# Altium schematic symbol library simcom.SchLib: 9 symbols
Pins are listed as number, name and electrical type; pins without a type are passive.

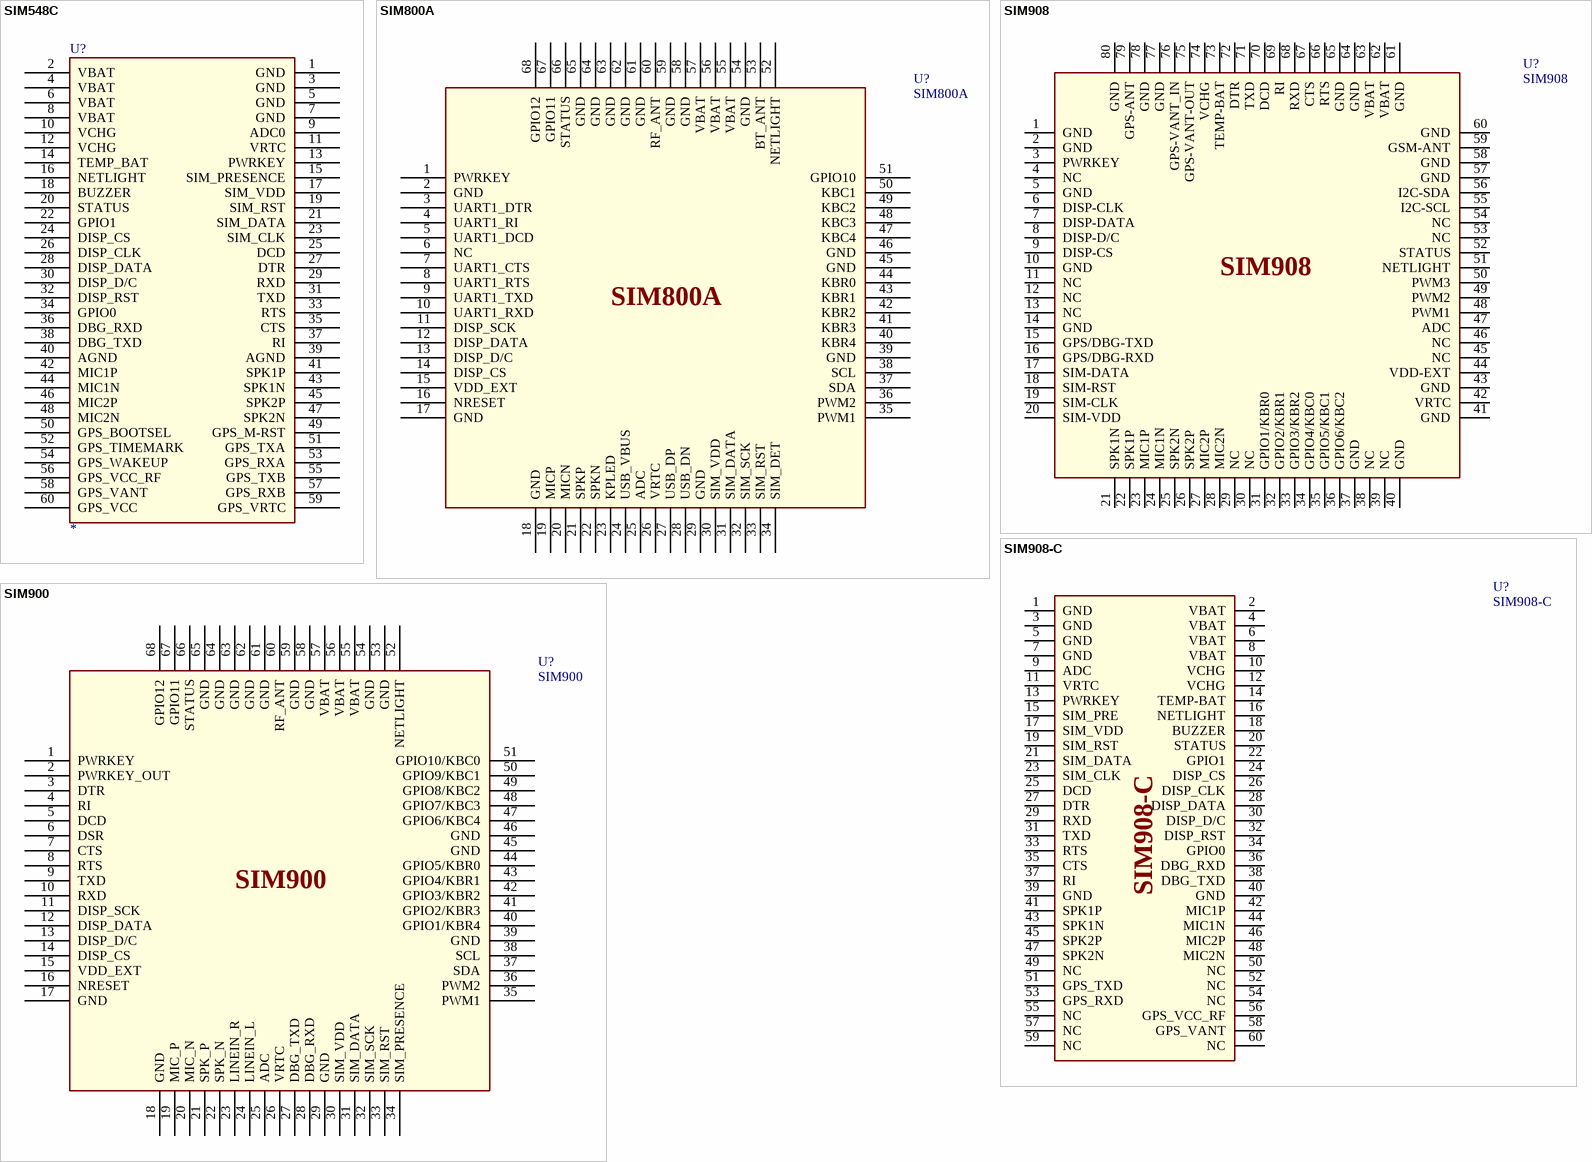
[diagram p0: symbols SIM548C to SIM908-C]

## SIM548C
designator U?
pins: 1 GND, 2 VBAT, 3 GND, 4 VBAT, 5 GND, 6 VBAT, 7 GND, 8 VBAT, 9 ADC0, 10 VCHG, 11 VRTC, 12 VCHG, 13 PWRKEY, 14 TEMP_BAT, 15 SIM_PRESENCE, 16 NETLIGHT, 17 SIM_VDD, 18 BUZZER, 19 SIM_RST, 20 STATUS, 21 SIM_DATA, 22 GPIO1, 23 SIM_CLK, 24 DISP_CS, 25 DCD, 26 DISP_CLK, 27 DTR, 28 DISP_DATA, 29 RXD, 30 DISP_D/C, 31 TXD, 32 DISP_RST, 33 RTS, 34 GPIO0, 35 CTS, 36 DBG_RXD, 37 RI, 38 DBG_TXD, 39 AGND, 40 AGND, 41 SPK1P, 42 MIC1P, 43 SPK1N, 44 MIC1N, 45 SPK2P, 46 MIC2P, 47 SPK2N, 48 MIC2N, 49 GPS_M-RST, 50 GPS_BOOTSEL, 51 GPS_TXA, 52 GPS_TIMEMARK, 53 GPS_RXA, 54 GPS_WAKEUP, 55 GPS_TXB, 56 GPS_VCC_RF, 57 GPS_RXB, 58 GPS_VANT, 59 GPS_VRTC, 60 GPS_VCC

## SIM800A
designator U?
Dual-band GSM/GPRS module EGSM 900, DCS 1800; BRAND: SIMCOM; PART NO: SIM800A; TYPE: SMD
footprint SIM800
pins: 1 PWRKEY "PWRKEY should be pulled low more than 1 second then released to power on/off the module.", 2 GND "Ground", 3 UART1_DTR "Data terminal ready", 4 UART1_RI "Ring indicator", 5 UART1_DCD "Data carrier detect", 6 NC "No connection", 7 UART1_CTS "Clear to send", 8 UART1_RTS "Request to send", 9 UART1_TXD "Transmit data", 10 UART1_RXD "Receive data", 11 DISP_SCK "Display interface", 12 DISP_DATA "Display interface", 13 DISP_D/C "Display interface", 14 DISP_CS "Display interface", 15 VDD_EXT "2.8V output power supply", 16 NRESET "Reset input, active low", 17 GND (power) "Ground", 18 GND (power) "Ground", 19 MICP "Differential audio input", 20 MICN "Differential audio input", 21 SPKP "Differential audio output", 22 SPKN "Differential audio output", 23 KPLED "Sink current for keypad LED", 24 USB_VBUS "For debugging & upgrading firmware", 25 ADC "Input voltage range: 0V ~ 2.8V", 26 VRTC "Power supply for RTC", 27 USB_DP "For debugging & upgrading firmware", 28 USB_DN "For debugging & upgrading firmware", 29 GND (power) "Ground", 30 SIM_VDD "Voltage supply for SIM card. Support 1.8V or 3V SIM card", 31 SIM_DATA "SIM data input/output", 32 SIM_SCK "SIM card clock", 33 SIM_RST "SIM card reset", 34 SIM_DET "SIM card detection", 35 PWM1 "Pulse-Width Modulation", 36 PWM2 "Pulse-Width Modulation", 37 SDA "I2C bus data", 38 SCL "I2C bus clock", 39 GND (power) "Ground", 40 KBR4 "keypad row 4", 41 KBR3 "keypad row 3", 42 KBR2 "keypad row 2", 43 KBR1 "keypad row 1", 44 KBR0 "keypad row 0", 45 GND (power) "Ground", 46 GND (power) "Ground", 47 KBC4 "keypad column 4", 48 KBC3 "keypad column 3", 49 KBC2 "keypad column 2", 50 KBC1 "keypad column 1", 51 GPIO10, 52 NETLIGHT "Network status indication", 53 BT_ANT (power) "Bluetooth antenna", 54 GND (power) "Ground", 55 VBAT (power) "Power supply", 56 VBAT (power) "Power supply", 57 VBAT (power) "Power supply", 58 GND (power) "Ground", 59 GND (power) "Ground", 60 RF_ANT "GSM antenna", 61 GND (power) "Ground", 62 GND (power) "Ground", 63 GND (power) "Ground", 64 GND (power) "Ground", 65 GND (power) "Ground", 66 STATUS "Power on status indication", 67 GPIO11, 68 GPIO12

## SIM900
designator U?
Module GSM/GPRS 850/900/1800/1900MHz
footprint SIM900
pins: 1 PWRKEY, 2 PWRKEY_OUT, 3 DTR, 4 RI, 5 DCD, 6 DSR, 7 CTS, 8 RTS, 9 TXD, 10 RXD, 11 DISP_SCK, 12 DISP_DATA, 13 DISP_D/C, 14 DISP_CS, 15 VDD_EXT, 16 NRESET, 17 GND (power), 18 GND (power), 19 MIC_P, 20 MIC_N, 21 SPK_P, 22 SPK_N, 23 LINEIN_R, 24 LINEIN_L, 25 ADC, 26 VRTC, 27 DBG_TXD, 28 DBG_RXD, 29 GND (power), 30 SIM_VDD, 31 SIM_DATA, 32 SIM_SCK, 33 SIM_RST, 34 SIM_PRESENCE, 35 PWM1, 36 PWM2, 37 SDA, 38 SCL, 39 GND (power), 40 GPIO1/KBR4, 41 GPIO2/KBR3, 42 GPIO3/KBR2, 43 GPIO4/KBR1, 44 GPIO5/KBR0, 45 GND (power), 46 GND (power), 47 GPIO6/KBC4, 48 GPIO7/KBC3, 49 GPIO8/KBC2, 50 GPIO9/KBC1, 51 GPIO10/KBC0, 52 NETLIGHT, 53 GND (power), 54 GND (power), 55 VBAT (power), 56 VBAT (power), 57 VBAT (power), 58 GND (power), 59 GND (power), 60 RF_ANT, 61 GND (power), 62 GND (power), 63 GND (power), 64 GND (power), 65 GND (power), 66 STATUS, 67 GPIO11, 68 GPIO12

## SIM908
designator U?
Module GSM/GPRS 850/900/1800/1900MHz & GPS
footprint SIM908
pins: 1 GND, 2 GND, 3 PWRKEY, 4 NC, 5 GND, 6 DISP-CLK, 7 DISP-DATA, 8 DISP-D/C, 9 DISP-CS, 10 GND, 11 NC, 12 NC, 13 NC, 14 GND, 15 GPS/DBG-TXD, 16 GPS/DBG-RXD, 17 SIM-DATA, 18 SIM-RST (power), 19 SIM-CLK (power), 20 SIM-VDD, 21 SPK1N, 22 SPK1P, 23 MIC1P, 24 MIC1N, 25 SPK2N, 26 SPK2P, 27 MIC2P, 28 MIC2N, 29 NC (power), 30 NC, 31 GPIO1/KBR0, 32 GPIO2/KBR1, 33 GPIO3/KBR2, 34 GPIO4/KBC0, 35 GPIO5/KBC1, 36 GPIO6/KBC2, 37 GND, 38 NC, 39 NC (power), 40 GND, 41 GND, 42 VRTC, 43 GND, 44 VDD-EXT, 45 NC (power), 46 NC (power), 47 ADC, 48 PWM1, 49 PWM2, 50 PWM3, 51 NETLIGHT, 52 STATUS, 53 NC (power), 54 NC (power), 55 I2C-SCL (power), 56 I2C-SDA (power), 57 GND (power), 58 GND (power), 59 GSM-ANT (power), 60 GND, 61 GND (power), 62 VBAT (power), 63 VBAT (power), 64 GND (power), 65 GND (power), 66 RTS, 67 CTS, 68 RXD, 69 RI (power), 70 DCD (power), 71 TXD (power), 72 DTR (power), 73 TEMP-BAT (power), 74 VCHG, 75 GPS-VANT-OUT, 76 GPS-VANT_IN, 77 GND, 78 GND, 79 GPS-ANT, 80 GND

## SIM908-C
designator U?
Module GSM/GPRS 850/900/1800/1900MHz & GPS
footprint SIM908-C
pins: 1 GND, 2 VBAT (power), 3 GND, 4 VBAT (power), 5 GND, 6 VBAT (power), 7 GND, 8 VBAT (power), 9 ADC, 10 VCHG, 11 VRTC, 12 VCHG, 13 PWRKEY, 14 TEMP-BAT (power), 15 SIM_PRE, 16 NETLIGHT, 17 SIM_VDD, 18 BUZZER, 19 SIM_RST (power), 20 STATUS, 21 SIM_DATA, 22 GPIO1, 23 SIM_CLK (power), 24 DISP_CS, 25 DCD (power), 26 DISP_CLK, 27 DTR (power), 28 DISP_DATA, 29 RXD, 30 DISP_D/C, 31 TXD (power), 32 DISP_RST, 33 RTS, 34 GPIO0, 35 CTS, 36 DBG_RXD, 37 RI (power), 38 DBG_TXD, 39 GND (power), 40 GND, 41 SPK1P, 42 MIC1P, 43 SPK1N, 44 MIC1N, 45 SPK2P, 46 MIC2P, 47 SPK2N, 48 MIC2N, 49 NC (power), 50 NC, 51 GPS_TXD, 52 NC, 53 GPS_RXD, 54 NC, 55 NC, 56 GPS_VCC_RF, 57 NC, 58 GPS_VANT, 59 NC, 60 NC

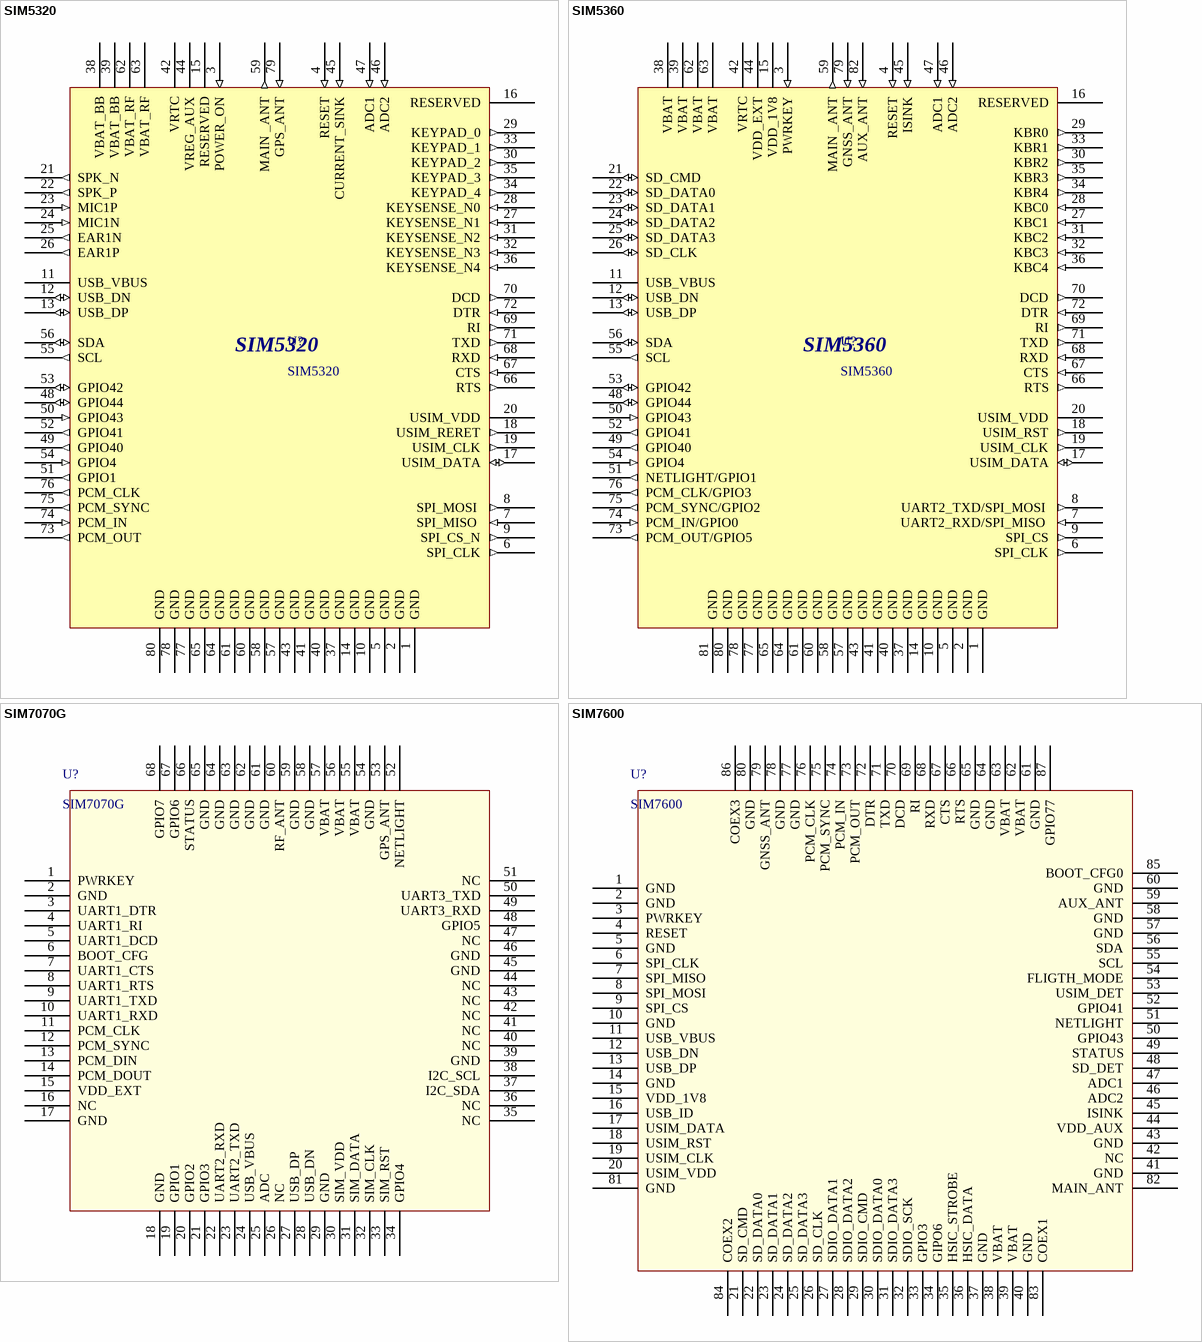
[diagram p1: symbols SIM5320 to SIM7600]

## SIM5320
designator U?
Supplier: *
footprint SIM5320
pins: 1 GND (power), 2 GND (power), 3 POWER_ON (in), 4 RESET (in), 5 GND (power), 6 SPI_CLK (out), 7 SPI_MISO  (in), 8 SPI_MOSI  (out), 9 SPI_CS_N (out), 10 GND (power), 11 USB_VBUS (power), 12 USB_DN (io), 13 USB_DP (io), 14 GND (power), 15 RESERVED, 16 RESERVED, 17 USIM_DATA (io), 18 USIM_RERET (out), 19 USIM_CLK (out), 20 USIM_VDD (power), 21 SPK_N (out), 22 SPK_P (out), 23 MIC1P (in), 24 MIC1N (in), 25 EAR1N (out), 26 EAR1P (out), 27 KEYSENSE_N1 (in), 28 KEYSENSE_N0 (in), 29 KEYPAD_0 (out), 30 KEYPAD_2 (out), 31 KEYSENSE_N2 (in), 32 KEYSENSE_N3 (in), 33 KEYPAD_1 (out), 34 KEYPAD_4 (out), 35 KEYPAD_3 (out), 36 KEYSENSE_N4 (in), 37 GND (power), 38 VBAT_BB (power), 39 VBAT_BB (power), 40 GND (power), 41 GND (power), 42 VRTC (power), 43 GND (power), 44 VREG_AUX (power), 45 CURRENT_SINK (in), 46 ADC2 (in), 47 ADC1 (in), 48 GPIO44 (io), 49 GPIO40 (out), 50 GPIO43 (in), 51 GPIO1 (out), 52 GPIO41 (out), 53 GPIO42 (io), 54 GPIO4 (in), 55 SCL (out), 56 SDA (io), 57 GND (power), 58 GND (power), 59 MAIN _ANT (out), 60 GND (power), 61 GND (power), 62 VBAT_RF (power), 63 VBAT_RF (power), 64 GND (power), 65 GND (power), 66 RTS (out), 67 CTS (in), 68 RXD (in), 69 RI (out), 70 DCD (out), 71 TXD (out), 72 DTR (in), 73 PCM_OUT (out), 74 PCM_IN (in), 75 PCM_SYNC (out), 76 PCM_CLK (out), 77 GND (power), 78 GND (power), 79 GPS_ANT (in), 80 GND (power)

## SIM5360
designator U?
Supplier: *
footprint SIM5360
pins: 1 GND (power), 2 GND (power), 3 PWRKEY (in), 4 RESET (in), 5 GND (power), 6 SPI_CLK (out), 7 UART2_RXD/SPI_MISO  (in), 8 UART2_TXD/SPI_MOSI  (out), 9 SPI_CS (out), 10 GND (power), 11 USB_VBUS (power), 12 USB_DN (io), 13 USB_DP (io), 14 GND (power), 15 VDD_1V8 (power), 16 RESERVED, 17 USIM_DATA (io), 18 USIM_RST (out), 19 USIM_CLK (out), 20 USIM_VDD (power), 21 SD_CMD (io), 22 SD_DATA0 (io), 23 SD_DATA1 (io), 24 SD_DATA2 (io), 25 SD_DATA3 (io), 26 SD_CLK (io), 27 KBC1 (in), 28 KBC0 (in), 29 KBR0 (out), 30 KBR2 (out), 31 KBC2 (in), 32 KBC3 (in), 33 KBR1 (out), 34 KBR4 (out), 35 KBR3 (out), 36 KBC4 (in), 37 GND (power), 38 VBAT (power), 39 VBAT (power), 40 GND (power), 41 GND (power), 42 VRTC (power), 43 GND (power), 44 VDD_EXT (power), 45 ISINK (in), 46 ADC2 (in), 47 ADC1 (in), 48 GPIO44 (io), 49 GPIO40 (out), 50 GPIO43 (in), 51 NETLIGHT/GPIO1 (out), 52 GPIO41 (out), 53 GPIO42 (io), 54 GPIO4 (in), 55 SCL (out), 56 SDA (io), 57 GND (power), 58 GND (power), 59 MAIN _ANT (out), 60 GND (power), 61 GND (power), 62 VBAT (power), 63 VBAT (power), 64 GND (power), 65 GND (power), 66 RTS (out), 67 CTS (in), 68 RXD (in), 69 RI (out), 70 DCD (out), 71 TXD (out), 72 DTR (in), 73 PCM_OUT/GPIO5 (out), 74 PCM_IN/GPIO0 (in), 75 PCM_SYNC/GPIO2 (out), 76 PCM_CLK/GPIO3 (out), 77 GND (power), 78 GND (power), 79 GNSS_ANT (in), 80 GND (power), 81 GND (power), 82 AUX_ANT (in)

## SIM7070G
designator U?
footprint SIM7070
pins: 1 PWRKEY, 2 GND, 3 UART1_DTR, 4 UART1_RI, 5 UART1_DCD, 6 BOOT_CFG, 7 UART1_CTS, 8 UART1_RTS, 9 UART1_TXD, 10 UART1_RXD, 11 PCM_CLK, 12 PCM_SYNC, 13 PCM_DIN, 14 PCM_DOUT, 15 VDD_EXT, 16 NC, 17 GND, 18 GND, 19 GPIO1, 20 GPIO2, 21 GPIO3, 22 UART2_RXD, 23 UART2_TXD, 24 USB_VBUS, 25 ADC, 26 NC, 27 USB_DP, 28 USB_DN, 29 GND, 30 SIM_VDD, 31 SIM_DATA, 32 SIM_CLK, 33 SIM_RST, 34 GPIO4, 35 NC, 36 NC, 37 I2C_SDA, 38 I2C_SCL, 39 GND, 40 NC, 41 NC, 42 NC, 43 NC, 44 NC, 45 GND, 46 GND, 47 NC, 48 GPIO5, 49 UART3_RXD, 50 UART3_TXD, 51 NC, 52 NETLIGHT, 53 GPS_ANT, 54 GND, 55 VBAT, 56 VBAT, 57 VBAT, 58 GND, 59 GND, 60 RF_ANT, 61 GND, 62 GND, 63 GND, 64 GND, 65 GND, 66 STATUS, 67 GPIO6, 68 GPIO7

## SIM7600
designator U?
footprint SIM7600 (SIM7600 4G)
pins: 1 GND, 2 GND, 3 PWRKEY, 4 RESET, 5 GND, 6 SPI_CLK, 7 SPI_MISO, 8 SPI_MOSI, 9 SPI_CS, 10 GND, 11 USB_VBUS, 12 USB_DN, 13 USB_DP, 14 GND, 15 VDD_1V8, 16 USB_ID, 17 USIM_DATA, 18 USIM_RST, 19 USIM_CLK, 20 USIM_VDD, 21 SD_CMD, 22 SD_DATA0, 23 SD_DATA1, 24 SD_DATA2, 25 SD_DATA3, 26 SD_CLK, 27 SDIO_DATA1, 28 SDIO_DATA2, 29 SDIO_CMD, 30 SDIO_DATA0, 31 SDIO_DATA3, 32 SDIO_SCK, 33 GPIO3, 34 GIPO6, 35 HSIC_STROBE, 36 HSIC_DATA, 37 GND, 38 VBAT, 39 VBAT, 40 GND, 41 GND, 42 NC, 43 GND, 44 VDD_AUX, 45 ISINK, 46 ADC2, 47 ADC1, 48 SD_DET, 49 STATUS, 50 GPIO43, 51 NETLIGHT, 52 GPIO41, 53 USIM_DET, 54 FLIGTH_MODE, 55 SCL, 56 SDA, 57 GND, 58 GND, 59 AUX_ANT, 60 GND, 61 GND, 62 VBAT, 63 VBAT, 64 GND, 65 GND, 66 RTS, 67 CTS, 68 RXD, 69 RI, 70 DCD, 71 TXD, 72 DTR, 73 PCM_OUT, 74 PCM_IN, 75 PCM_SYNC, 76 PCM_CLK, 77 GND, 78 GND, 79 GNSS_ANT, 80 GND, 81 GND, 82 MAIN_ANT, 83 COEX1, 84 COEX2, 85 BOOT_CFG0, 86 COEX3, 87 GPIO77